# EAGLE library part MCP42XXX (library ads4)
Microchip Dual Digital Potentiometer
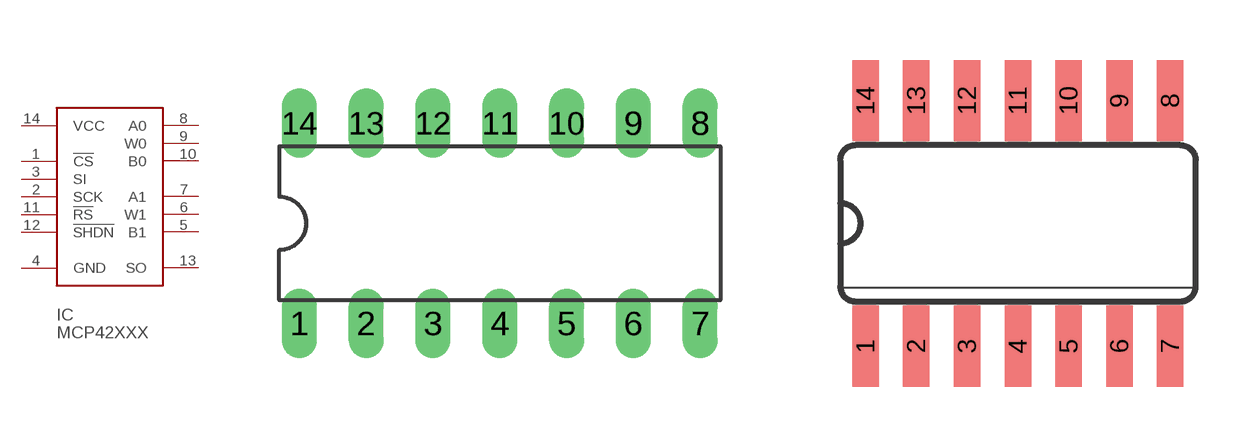
[diagram p17: symbol with the pads of DIL14; footprints DIL14, SO14]

Designator prefix IC

## MCP42XXXP  [DIL14]
1  !CS  in
2  SCK  in
3  SI  in
4  GND  pwr
5  B1  pas
6  W1  pas
7  A1  pas
8  A0  pas
9  W0  pas
10  B0  pas
11  !RS  in
12  !SHDN  in
13  SO  out
14  VCC  pwr

## MCP42XXXSL  [SO14]
Pads as for DIL14

## Footprint DIL14 (pad centres in mm)
Dual In Line Package
drill 0.813 long: 1 -7.62,-3.81; 2 -5.08,-3.81; 3 -2.54,-3.81; 4 0,-3.81; 5 2.54,-3.81; 6 5.08,-3.81; 7 7.62,-3.81; 8 7.62,3.81; 9 5.08,3.81; 10 2.54,3.81; 11 0,3.81; 12 -2.54,3.81; 13 -5.08,3.81; 14 -7.62,3.81

## Footprint SO14 (pad centres in mm)
Small Outline package 150 mil
smd 0.66 x 2.032: 1 -3.81,-3.073; 2 -2.54,-3.073; 3 -1.27,-3.073; 4 0,-3.073; 5 1.27,-3.073; 6 2.54,-3.073; 7 3.81,-3.073; 8 3.81,3.073; 9 2.54,3.073; 10 1.27,3.073; 11 0,3.073; 12 -1.27,3.073; 13 -2.54,3.073; 14 -3.81,3.073